# Altium schematic symbol library SCH - OPAMP - TI THS4551 RGT.SCHLIB: 1 symbol
Pins are listed as number, name and electrical type; pins without a type are passive.

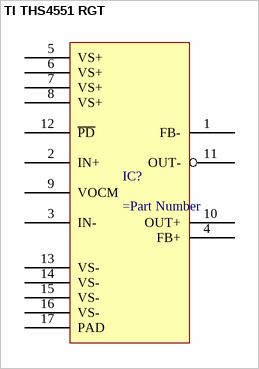
[diagram p0: symbol TI THS4551 RGT]

## TI THS4551 RGT
designator IC?
pins: 1 FB-, 2 IN+, 3 IN-, 4 FB+, 5 VS+, 6 VS+, 7 VS+, 8 VS+, 9 VOCM, 10 OUT+, 11 OUT-, 12 ~{PD}, 13 VS-, 14 VS-, 15 VS-, 16 VS-, 17 PAD